# EAGLE library part TRANSFORMER_TH (library drag-custom)
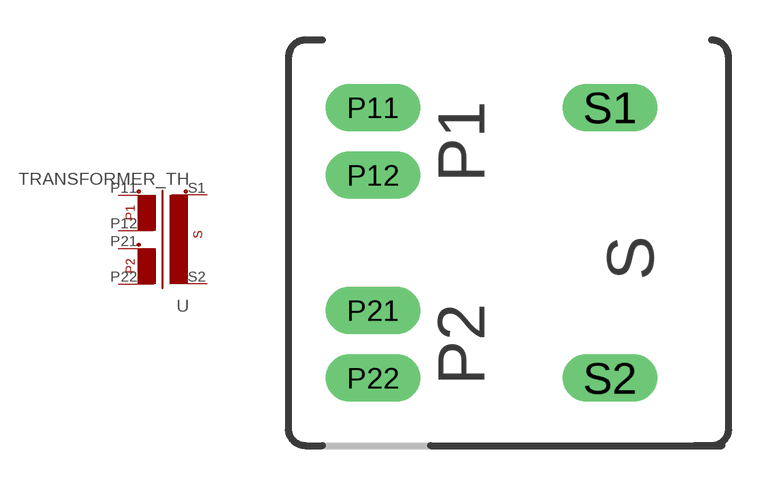
[diagram p12: symbol with the pads of TRANSFORMER_TH; footprint TRANSFORMER_TH]

Designator prefix -

## TRANSFORMER_TH  [TRANSFORMER_TH]
P11  P11  pas
P12  P12  pas
P21  P21  pas
P22  P22  pas
S1  S1  pas
S2  S2  pas

## Footprint TRANSFORMER_TH (pad centres in mm)
drill 0.9 pad 1.778 long: P11 -5.08,6.35; P12 -5.08,3.81; P21 -5.08,-1.27; P22 -5.08,-3.81; S1 3.81,6.35; S2 3.81,-3.81